# EAGLE library part TLW-108-05-T-S (library SAMTEC-Txx_By_element14_Batch_1)
CONNECTOR HEADER, 8 WAY, 1ROW
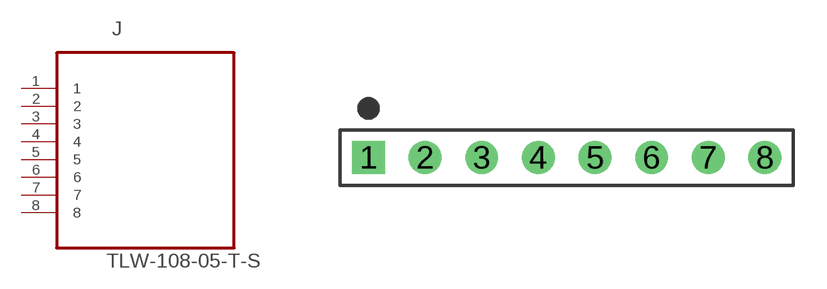
[diagram p159: symbol with the pads of SAMTEC_TLW-108-05-T-S; footprint SAMTEC_TLW-108-05-T-S]

Designator prefix J

## TLW-108-05-T-S (MPN: TLW-108-05-T-S; OC_FARNELL: -; OC_NEWARK: 12P0423; PACKAGE: CONN HEADER 8 POS .100 inch; SUPPLIER: SAMTEC)  [SAMTEC_TLW-108-05-T-S]
1  1  pas
2  2  pas
3  3  pas
4  4  pas
5  5  pas
6  6  pas
7  7  pas
8  8  pas

## Footprint SAMTEC_TLW-108-05-T-S (pad centres in mm)
drill 0.965 square: 1 -17.78,0
drill 0.965: 2 -15.24,0; 3 -12.7,0; 4 -10.16,0; 5 -7.62,0; 6 -5.08,0; 7 -2.54,0; 8 0,0